# Altium schematic symbol library DS90LV047ATMTC.SchLib: 1 symbol
Pins are listed as number, name and electrical type; pins without a type are passive.

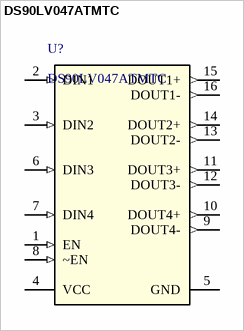
[diagram p0: symbol DS90LV047ATMTC]

## DS90LV047ATMTC
designator U?
400-Mbps LVDS quad high-speed differential driver 16-TSSOP -40 to 85; Manufacturer_Name: Texas Instruments; Manufacturer: NationalSemiconductor; PackageTopMarking: NS2ZXYTTDS90LV047AT; PowerWise: N; CompType: InterfaceIC; ComponentLink1DescBC: DS90LV047ADatasheet; ComponentLink2DescA4: DS90LV047AWebPage; ComponentLink3DescAC: MTC16PackagePage; Copyright: Copyright (C) 2025 Ultra Librarian. All rights reserved.; Manufacturer_Part_Number: DS90LV047ATMTC; Published: 4-Dec-2008; DatasheetVersion: Jan-2003; PackageVersion: revDJun-2003; PackageReference: MTC16; Publisher: AltiumLimited; PackageDescription: MoldedTSSOPJedec5x44x09mmBody16Lead065mmPitch; Supplier: 1Farnell; SUPPLIER_2: PartNumb0C9778659; PartNumber: DS90LV047ATMTC; RoHS: N; PinCount: 16; Code_JEDEC: MO-153-AB; ComponentLink1URL: http//wwwnationalcom/ds/DS/DS90LV047Apdf; ComponentLink2URL: http//wwwnationalcom/pf/DS/DS90LV047Ahtml; ComponentLink3URL: http//wwwnationalcom/packaging/folders/mtc16html
footprint MTC16_N
pins: 1 EN (in), 2 DIN1 (in), 3 DIN2 (in), 4 VCC (power), 5 GND (power), 6 DIN3 (in), 7 DIN4 (in), 8 ~EN (in), 9 DOUT4- (out), 10 DOUT4+ (out), 11 DOUT3+ (out), 12 DOUT3- (out), 13 DOUT2- (out), 14 DOUT2+ (out), 15 DOUT1+ (out), 16 DOUT1- (out)